# Altium schematic symbol library DFE201610E-R68M=P2.SchLib: 1 symbol
Pins are listed as number, name and electrical type; pins without a type are passive.

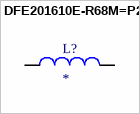
[diagram p0: symbol DFE201610E-R68M=P2]

## DFE201610E-R68M=P2
designator L?
Inductor, Shielded, 0.68Uh, 3.7A, 0806; MF: {'manufacturer': u'Murata Electronics'}; MP: DFE201610E-R68M=P2; Package: None; Price: None; Value: *; Availability: Unavailable
footprint INDC2016X100N
pins: 1, 2